# Altium footprint library 超实用封装库(专用C).PcbLib: 106 footprints (part 3 of 7)
Each footprint in its own frame and in the unit in brackets; x right, y up, seen from the top. Pads: shape width x height; smd on the part's side, far side on the other; paste and mask are expansions set on the pad; w line width, h text height; cw(c..) or ccw(c..) is an arc to the next point about the centre after c.
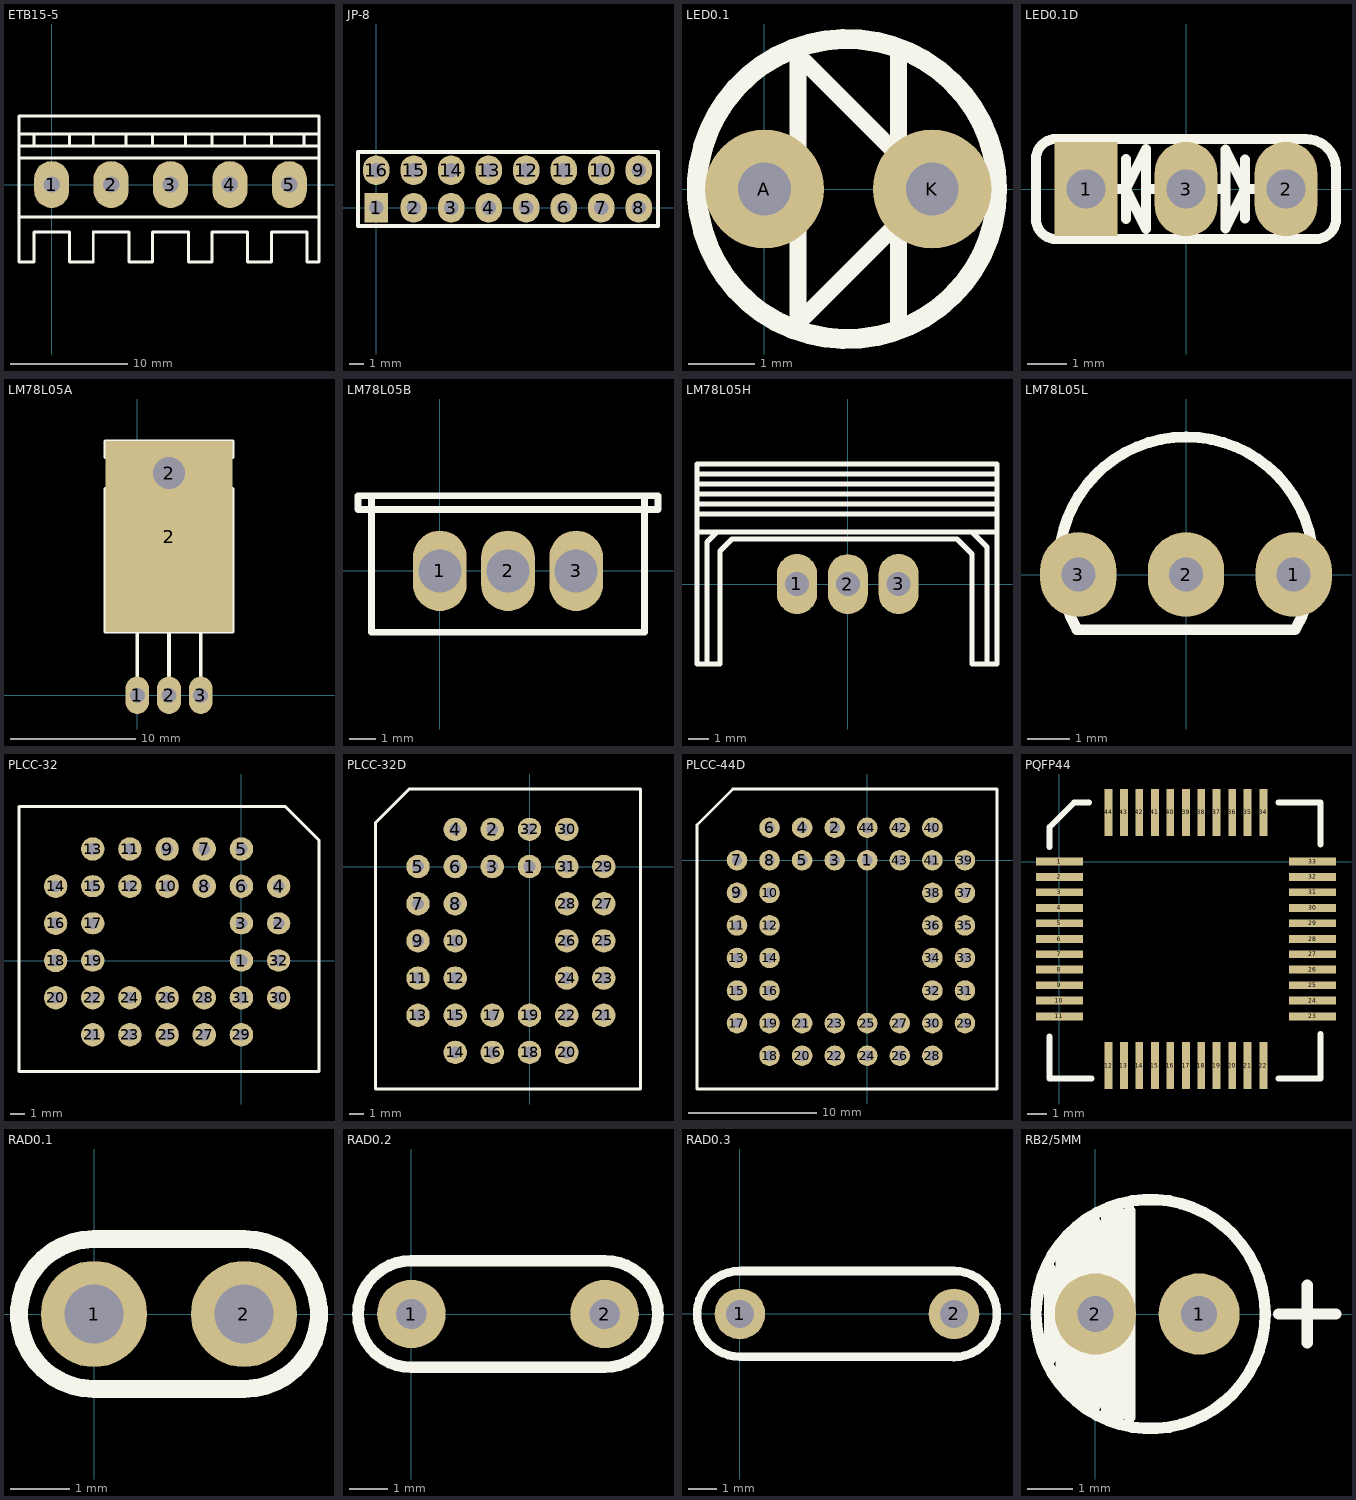
[diagram p2: the footprints below, top view; thin cyan lines are the x and y axes]

## ETB15-5 [mm]
pads (5):
  oval 3x4 hole 1.4: 1(0,0) 2(5.08,0) 3(10.16,0) 4(15.24,0) 5(20.32,0)
TopOverlay:
  lines w0.254: -2.794,-2.794 7.874,-2.794 22.86,-2.794 ; -2.794,2.286 7.874,2.286 22.86,2.286 ; -2.794,3.302 7.874,3.302 22.86,3.302 ; -2.794,4.318 7.874,4.318 22.86,4.318 ; -1.524,3.302 -1.524,4.318 1.524,4.318 1.524,3.302 3.556,3.302 3.556,4.318 6.35,4.318 6.35,3.302 ; 8.636,3.302 8.636,4.318 ; 11.43,3.302 11.43,4.318 ; 13.716,3.302 13.716,4.318 ; 16.51,3.302 16.51,4.318 ; 18.796,3.302 18.796,4.318 ; 21.59,3.302 21.59,4.318 ; -2.794,-6.604 -2.794,5.842 7.874,5.842 22.86,5.842 22.86,-6.604 21.844,-6.604 21.844,-4.064 18.796,-4.064 18.796,-6.604 16.764,-6.604 16.764,-4.064 13.716,-4.064 13.716,-6.604 11.684,-6.604 11.684,-4.064 8.636,-4.064 8.636,-6.604 6.604,-6.604 6.604,-4.064 3.556,-4.064 3.556,-6.604 1.524,-6.604 1.524,-4.064 -1.524,-4.064 -1.524,-6.604 -2.794,-6.604

## JP-8 [mm]
pads (16):
  rect 1.6x2 hole 1: 1(0,0)
  oval 1.8x2 hole 1: 2(2.54,0) 3(5.08,0) 4(7.62,0) 5(10.16,0) 6(12.7,0) 7(15.24,0) 8(17.78,0) 9(17.78,2.54) 10(15.24,2.54) 11(12.7,2.54) 12(10.16,2.54) 13(7.62,2.54) 14(5.08,2.54) 15(2.54,2.54) 16(0,2.54)
TopOverlay:
  lines w0.254: -1.23,-1.23 19.09,-1.23 19.09,3.77 -1.23,3.77 -1.23,-1.23

## LED0.1 [mm]
pads (2):
  round 1.8 hole 0.8: A(0,0) K(2.54,0)
TopOverlay:
  circle w0.305: c1.25,0 r2.272
  lines w0.254: 2.032,-2.032 2.032,2.032 ; 2.032,-0.508 0.508,-2.032 0.508,2.032 2.032,0.508

## LED0.1D [mm]
pads (3):
  rect 1.6x2.4 hole 1: 1(-2.54,0)
  oval 1.6x2.4 hole 1: 2(2.54,0) 3(0,0)
TopOverlay:
  lines w0.254: -2.032,0 -1.524,0 ; -1.524,-0.762 -1.524,0.762 ; -1.016,0 -0.508,0 ; 0.762,0 1,0 ; 1.496,-0.754 1.496,0.746 ; 2.032,0 1.5,0 ; -1.524,0 -1.016,-1.016 -1.016,1.016 -1.524,0 ; 1,1 1,-1 1.5,0 ; 1,1 1.5,0 ; 1,1 1.5,0 ; -3.81,-0.762 ccw(c-3.302,-0.762) -3.302,-1.27 3.302,-1.27 ccw(c3.302,-0.762) 3.81,-0.762 3.81,0.508 ccw(c3.048,0.508) 3.048,1.27 -3.302,1.27 ccw(c-3.302,0.762) -3.81,0.762 -3.81,-0.762

## LM78L05A [mm]
pads (5):
  oval 1.9x3 hole 1.2: 1(0,0) 2(2.54,0) 3(5.08,0)
  rect 10.2x15.3 smd: 2(2.54,12.7)
  round 3 hole 2.54: 2(2.54,17.78)
TopOverlay:
  lines w0.305: 0,1.524 0,5.08 ; 2.54,1.524 2.54,5.08 ; 5.08,1.524 5.08,5.08 ; -2.54,5.08 -2.54,16.51 -1.27,16.51 -1.27,19.05 -2.54,19.05 -2.54,20.32 7.62,20.32 7.62,19.05 6.35,19.05 6.35,16.51 7.62,16.51 7.62,5.08 -2.54,5.08

## LM78L05B [mm]
pads (3):
  oval 2x3 hole 1.6: 1(0,0) 2(2.54,0) 3(5.08,0)
TopOverlay:
  lines w0.254: -2.54,2.794 -3.048,2.794 -3.048,2.286 -2.54,2.286 7.62,2.286 8.128,2.286 8.128,2.794 7.62,2.794 ; -2.54,2.794 -2.54,-2.286 7.62,-2.286 7.62,2.794 ; -2.54,2.794 7.62,2.794

## LM78L05H [mm]
pads (3):
  oval 2x3 hole 1.2: 1(-2.544,0.006) 2(0,0) 3(2.536,0.006)
TopOverlay:
  lines w0.254: -7.544,2.61 7.456,2.61 ; -7.544,3.506 7.456,3.506 ; -7.544,4.006 7.456,4.006 ; -7.544,4.506 7.456,4.506 ; -7.544,5.006 7.456,5.006 ; -7.544,5.506 7.456,5.506 ; -7.044,-3.994 -7.044,2.11 -6.544,2.61 ; 6.206,2.61 6.956,1.86 6.956,-3.994 ; -7.544,-3.994 -7.544,6.006 7.456,6.006 7.456,-3.994 6.206,-3.994 6.206,1.506 5.456,2.256 -5.794,2.256 -6.392,1.658 -6.392,-3.994 -7.544,-3.994

## LM78L05L [mm]
pads (3):
  oval 1.8x2 hole 0.8: 1(2.54,0) 2(0,0) 3(-2.54,0)
TopOverlay:
  lines w0.254: -2.594,-1.25 cw(c0.004,0.25) 2.602,-1.25 ; -2.576,-1.3 2.574,-1.3

## PLCC-32 [mm]
pads (32):
  oval 1.6x1.5 hole 0.8: 1(0,0) 2(2.54,2.54) 3(0,2.54) 15(-10.16,5.08) 17(-10.16,2.54) 19(-10.16,0) 32(2.54,0)
  round 1.6 hole 0.8: 4(2.54,5.08) 5(0,7.62) 6(0,5.08) 7(-2.54,7.62) 8(-2.54,5.08) 9(-5.08,7.62) 10(-5.08,5.08) 11(-7.62,7.62) 12(-7.62,5.08) 13(-10.16,7.62) 14(-12.7,5.08) 16(-12.7,2.54) 18(-12.7,0) 20(-12.7,-2.54) 21(-10.16,-5.08) 22(-10.16,-2.54) 23(-7.62,-5.08) 24(-7.62,-2.54) 25(-5.08,-5.08) 26(-5.08,-2.54) 27(-2.54,-5.08) 28(-2.54,-2.54) 29(0,-5.08) 30(2.54,-2.54) 31(0,-2.54)
TopOverlay:
  lines w0.2: -15.2,-7.58 -15.2,10.52 3,10.52 3.1,10.42 5.3,8.22 5.3,-7.58 -15.2,-7.58

## PLCC-32D [mm]
pads (32):
  round 1.6 hole 0.8: 1(0,0) 2(-2.54,2.54) 3(-2.54,0) 4(-5.08,2.54) 5(-7.62,0) 6(-5.08,0) 7(-7.62,-2.54) 8(-5.08,-2.54) 9(-7.62,-5.08) 10(-5.08,-5.08) 11(-7.62,-7.62) 12(-5.08,-7.62) 13(-7.62,-10.16) 14(-5.08,-12.7) 15(-5.08,-10.16) 16(-2.54,-12.7) 17(-2.54,-10.16) 18(0,-12.7) 19(0,-10.16) 20(2.54,-12.7) 21(5.08,-10.16) 22(2.54,-10.16) 23(5.08,-7.62) 24(2.54,-7.62) 25(5.08,-5.08) 26(2.54,-5.08) 27(5.08,-2.54) 28(2.54,-2.54) 29(5.08,0) 30(2.54,2.54) 31(2.54,0) 32(0,2.54)
TopOverlay:
  lines w0.2: -10.52,-15.2 -10.52,3 -10.42,3.1 -8.22,5.3 7.58,5.3 7.58,-15.2 -10.52,-15.2

## PLCC-44D [mm]
pads (44):
  round 1.6 hole 0.8: 1(0,0) 2(-2.54,2.54) 3(-2.54,0) 4(-5.08,2.54) 5(-5.08,0) 6(-7.62,2.54) 7(-10.16,0) 8(-7.62,0) 9(-10.16,-2.54) 10(-7.62,-2.54) 11(-10.16,-5.08) 12(-7.62,-5.08) 13(-10.16,-7.62) 14(-7.62,-7.62) 15(-10.16,-10.16) 16(-7.62,-10.16) 17(-10.16,-12.7) 18(-7.62,-15.24) 19(-7.62,-12.7) 20(-5.08,-15.24) 21(-5.08,-12.7) 22(-2.54,-15.24) 23(-2.54,-12.7) 24(0,-15.24) 25(0,-12.7) 26(2.54,-15.24) 27(2.54,-12.7) 28(5.08,-15.24) 29(7.62,-12.7) 30(5.08,-12.7) 31(7.62,-10.16) 32(5.08,-10.16) 33(7.62,-7.62) 34(5.08,-7.62) 35(7.62,-5.08) 36(5.08,-5.08) 37(7.62,-2.54) 38(5.08,-2.54) 39(7.62,0) 40(5.08,2.54) 41(5.08,0) 42(2.54,2.54) 43(2.54,0) 44(0,2.54)
TopOverlay:
  lines w0.2: -13.28,-17.84 -13.28,2.76 -10.48,5.56 10.12,5.56 10.12,-17.84 -13.28,-17.84

## PQFP44 [mil]
pads (44):
  rect 95x16 smd: 1(0,0) 2(0,-31) 3(0,-62) 4(0,-94) 5(0,-125) 6(0,-157) 7(0,-188) 8(0,-219) 9(0,-251) 10(0,-282) 11(0,-314) 23(514,-314) 24(514,-282) 25(514,-251) 26(514,-219) 27(514,-188) 28(514,-157) 29(514,-125) 30(514,-94) 31(514,-62) 32(514,-31) 33(514,0)
  rect 16x95 smd: 12(100,-414) 13(131,-414) 14(162,-414) 15(194,-414) 16(225,-414) 17(257,-414) 18(288,-414) 19(319,-414) 20(351,-414) 21(382,-414) 22(414,-414) 34(414,100) 35(382,100) 36(351,100) 37(319,100) 38(288,100) 39(257,100) 40(225,100) 41(194,100) 42(162,100) 43(131,100) 44(100,100)
TopOverlay:
  lines w12: -20,-355 -20,-440 65,-440 ; -20,30 -20,70 30,120 60,120 ; 445,-440 530,-440 530,-350 ; 445,120 530,120 530,35

## RAD0.1 [mm]
pads (2):
  round 1.8 hole 1: 1(0,0) 2(2.54,0)
TopOverlay:
  lines w0.305: 0,-1.27 cw(c0,0) 0,1.27 2.54,1.27 cw(c2.54,0) 2.54,-1.27 0,-1.27

## RAD0.2 [mm]
pads (2):
  round 1.8 hole 0.8: 1(0,0) 2(5.08,0)
TopOverlay:
  lines w0.305: 0,-1.403 cw(c0,0) 0,1.403 5.08,1.403 cw(c5.08,0) 5.08,-1.403 0,-1.403

## RAD0.3 [mm]
pads (2):
  round 1.8 hole 1: 1(0,0) 2(7.62,0)
TopOverlay:
  lines w0.305: 7.62,-1.536 ccw(c7.62,-0.006) 7.62,1.524 0,1.524 ccw(c0,0) 0,-1.524 7.62,-1.524

## RB2/5MM [mm]
pads (2):
  round 1.8 hole 0.8: 1(2.3,0) 2(0,0)
TopOverlay:
  circle w0.254: c1.224,0 r2.54
  lines w0.254: -1.016,-1.016 -1.016,1.016 ; -0.762,-1.524 -0.762,1.524 ; -0.508,-1.778 -0.508,1.778 ; -0.254,-2.032 -0.254,2.032 ; 0,-2.032 0,2.032 ; 0.254,-2.286 0.254,2.286 ; 0.508,-2.286 0.508,2.286 ; 0.762,-2.286 0.762,2.286 ; 4.064,0 5.334,0 ; 4.699,-0.635 4.699,0.635